# EAGLE library part MOSFET-PN (library IC & Transistor)
Half Bridge with P-Channel and N-Channel MOSFET. Created by: Wai Weng
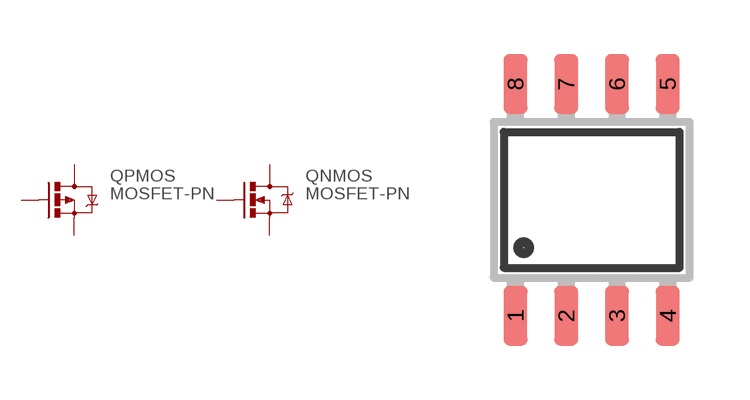
[diagram p93: symbol with the pads of SOIC-08N; footprint SOIC-08N]

Designator prefix Q; gates PMOS=MOSFET-P NMOS=MOSFET-N

## MOSFET-PN (CYTRON-PC: S-Q-NCE4606-SOP8; DESC: S Mosfet NCE4606 SOP8; MF: NCE Power; MPN: NCE4606; VALUE: 30V 6.5A)  [SOIC-08N]
1  NMOS:S
2  NMOS:G  in
3  PMOS:S
4  PMOS:G  in
5  PMOS:D
6  PMOS:D
7  NMOS:D
8  NMOS:D

## Footprint SOIC-08N (pad centres in mm)
Small Outline Integrated Circuit (SOIC) Narrow (JEDEC) SOIC Package Size: 4.9mm x 3.9mm Lead Pitch: 1.27mm
smd 0.6 x 1.5: 1 -1.905,-2.9; 2 -0.635,-2.9; 3 0.635,-2.9; 4 1.905,-2.9; 5 1.905,2.9; 6 0.635,2.9; 7 -0.635,2.9; 8 -1.905,2.9